# Altium schematic symbol library ACS71240LLCBTR-020U5.SchLib: 1 symbol
Pins are listed as number, name and electrical type; pins without a type are passive.

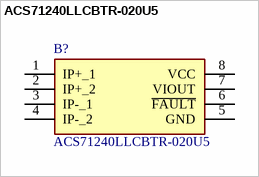
[diagram p0: symbol ACS71240LLCBTR-020U5]

## ACS71240LLCBTR-020U5
designator B?
Board Mount Current Sensors CURRENT SENSOR IC WITH COMMON MODE REJECTION AND OVERCURRENT FAULT; Manufacturer_Name: Allegro Microsystems; Geometry.Height: 1.75mm; Mouser Part Number: 250-S71240LLCBTR020U; Mouser Price/Stock: https://www.mouser.co.uk/ProductDetail/Allegro-MicroSystems/ACS71240LLCBTR-020U5?qs=rQFj71Wb1eXatIJDjqEsyg%3D%3D; Manufacturer_Part_Number: ACS71240LLCBTR-020U5; Datasheet Link: https://www.mouser.de/datasheet/2/1115/ACS71240_Datasheet-3079675.pdf
footprint SOIC127P600X175-8N
pins: 1 IP+_1, 2 IP+_2, 3 IP-_1, 4 IP-_2, 5 GND, 6 ~{FAULT}, 7 VIOUT, 8 VCC